# Altium schematic symbol library S1JB-13-F.Schlib: 1 symbol
Pins are listed as number, name and electrical type; pins without a type are passive.

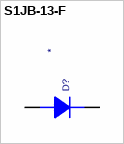
[diagram p0: symbol S1JB-13-F]

## S1JB-13-F
designator D?
600V 1A Diode, DO214
pins: 1 A, 2 K